# Altium footprint library PCB2.pcblib: 19 footprints (part 1 of 2)
Each footprint in its own frame and in the unit in brackets; x right, y up, seen from the top. Pads: shape width x height; smd on the part's side, far side on the other; paste and mask are expansions set on the pad; w line width, h text height; cw(c..) or ccw(c..) is an arc to the next point about the centre after c.
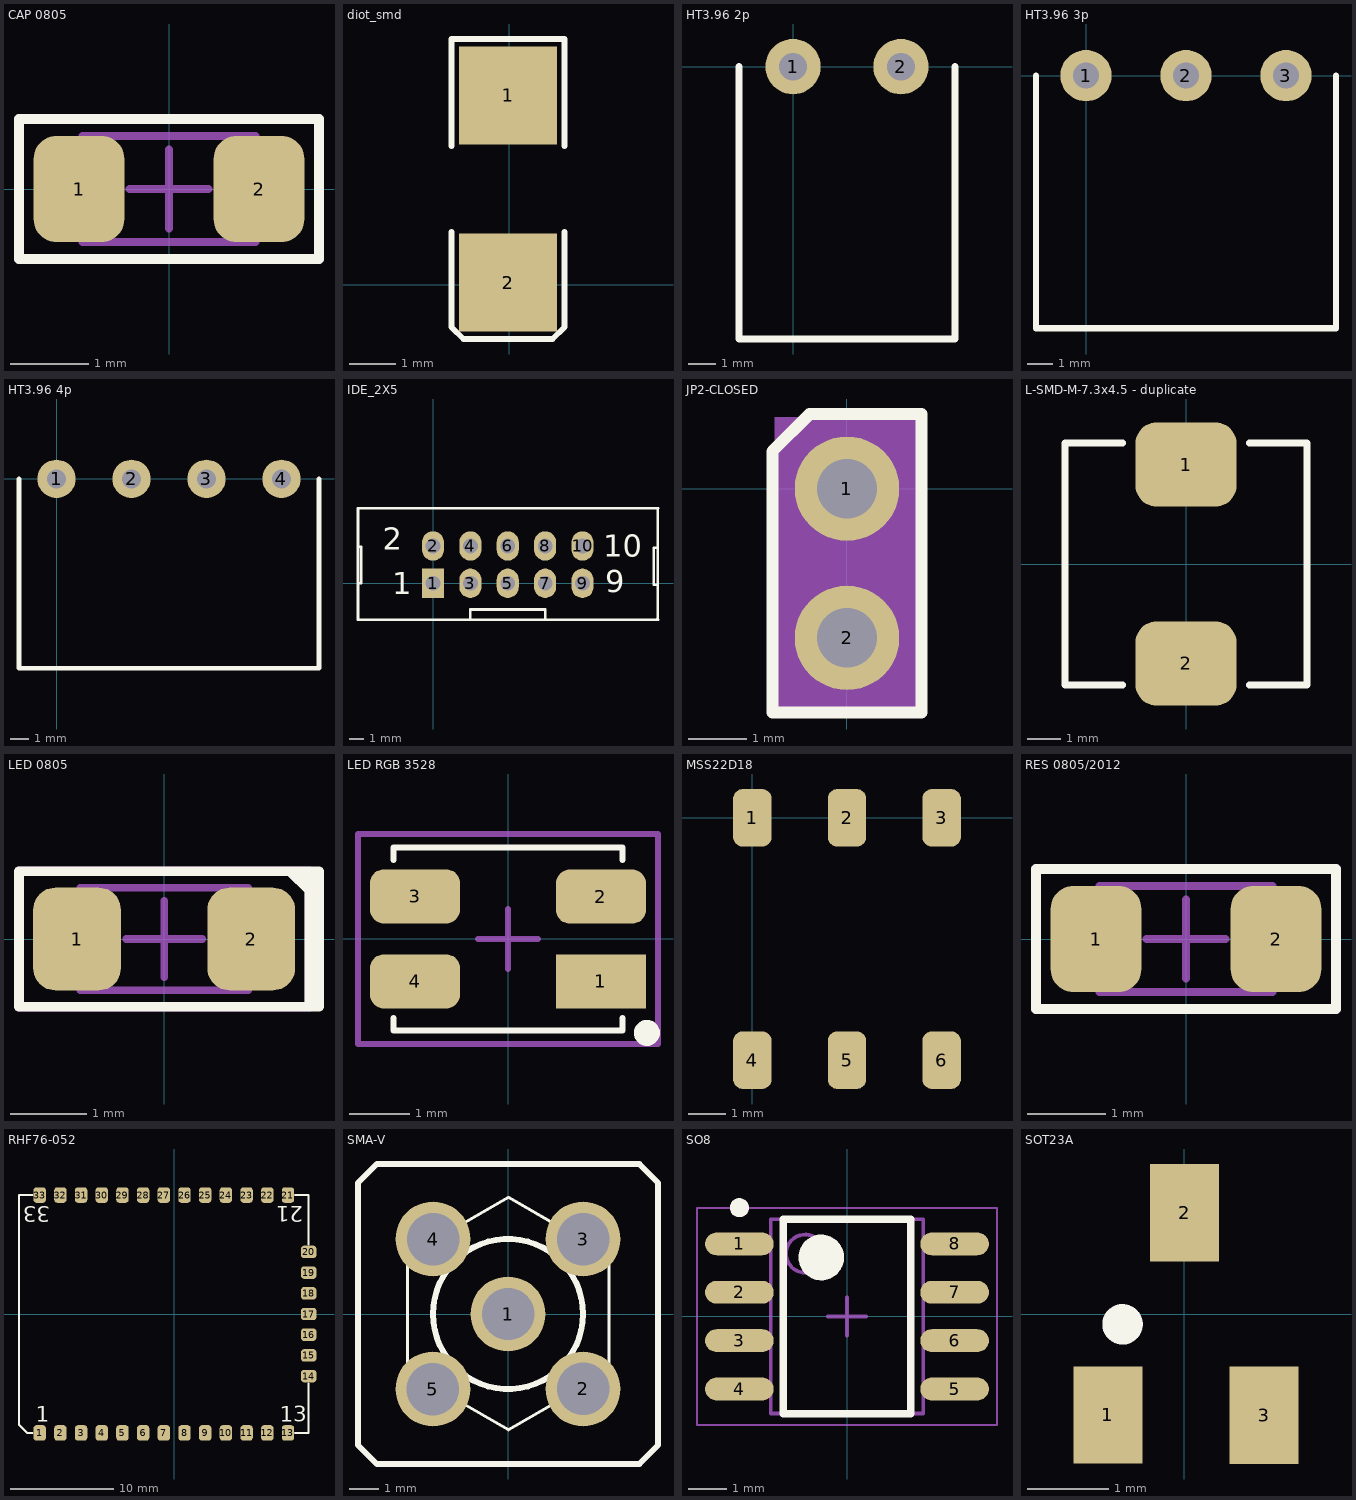
[diagram p0: the footprints below, top view; thin cyan lines are the x and y axes]

## CAP 0805 [mm]
pads (2):
  rrect50% 1.15x1.35 smd: 1(-1.143,0) 2(1.143,0)
Top Overlay:
  lines w0.127: -1.905,-0.889 -1.905,0.889 1.905,0.889 1.905,-0.889 -1.905,-0.889
Mechanical 13:
  lines w0.1: -1.1,-0.675 -1.1,0.675 1.1,0.675 1.1,-0.675 -1.1,-0.675
Mechanical 15:
  lines w0.1: -0.5,0 0.5,0 ; 0,-0.5 0,0.5
  lines w0.127: -1.905,-0.889 -1.905,0.889 1.905,0.889 1.905,-0.889 -1.905,-0.889
3D body "SW3dPS-smt_resistor_packages.STEP": height 0.64, standoff 0.02, extent -1.01,-0.635 1.01,0.635

## diot_smd [mm]
pads (2):
  rect 2.1x2.1 smd: 1(-0.026,4.053) 2(-0.026,0.053)
Top Overlay:
  lines w0.127: -1.232,1.132 -1.232,-0.9 -0.978,-1.154 0.927,-1.154 1.181,-0.9 1.181,1.132 ; -1.232,2.973 -1.232,5.259 1.181,5.259 1.181,2.973
3D body "User Library-SMAJ.STEP": height 2.04, standoff 0.05, extent -1.295,-0.381 1.245,4.549

## HT3.96 2p [mil]
pads (2):
  round 80 hole 40: 1(0,0) 2(155.91,0)
Top Overlay:
  lines w10: -77.95,0 -77.95,-393.7 233.86,-393.7 233.86,0

## HT3.96 3p [mil]
pads (3):
  round 80 hole 40: 1(0,0) 2(155.91,0) 3(311.81,0)
Top Overlay:
  lines w10: -77.95,0 -77.95,-393.7 389.76,-393.7 389.76,0

## HT3.96 4p [mil]
pads (4):
  round 80 hole 40: 1(0,0) 2(155.91,0) 3(311.81,0) 4(467.72,0)
Top Overlay:
  lines w10: -77.95,0 -77.95,-393.7 545.67,-393.7 545.67,0

## IDE_2X5 [mm]
pads (10):
  rect 1.5x2 hole 1: 1(0,0)
  oval 1.5x2 hole 1: 2(0,2.54) 3(2.54,0) 4(2.54,2.54) 5(5.08,0) 6(5.08,2.54) 7(7.62,0) 8(7.62,2.54) 9(10.16,0) 10(10.16,2.54)
Top Overlay:
  lines w0.178: -5.1,-0.025 -5.075,0 -4.875,0 -4.875,2.475 -5.1,2.475 ; 2.525,-2.438 2.525,-1.778 7.625,-1.778 7.625,-2.464 ; 15.203,-2.45 15.265,-2.388 ; 15.265,-0.102 15.011,-0.102 15.011,2.423 15.265,2.423 ; 15.291,-2.475 -5.1,-2.475 -5.1,5.1 ; -5.1,5.1 15.291,5.1 -5.1,5.1 ; 15.265,-2.388 15.265,5.105 15.265,-2.388
  text "1" at -2.775,-0.75 h1.52
  text "2" at -3.429,2.286 h1.52
  text "9" at 11.709,-0.61 h1.52
  text "10" at 11.582,1.803 h1.52
3D body "User Library-IDC Socket Male 10pin Straight THT Goldplated 2_54mm.STEP": height 9.17, standoff -3.23, extent -5.07,-2.98 15.23,5.87

## JP2-CLOSED [mil]
pads (2):
  round 70 hole 40: 1(0,0) 2(0,-100)
Top Overlay:
  lines w8: -50,-150 50,-150 50,50 -25,50 -50,25 -50,-150
Mechanical 2:
  rectangle: -48,-151 49.5,48
Mechanical 3:
  rectangle: -48.5,-148 48.5,48
3D body: height 300, standoff -120, extent -15,-115.25 15,-85.25
3D body: height 300, standoff -120, extent -15,-15.25 15,14.75
3D body: height 100, standoff 0, extent -50,-150.43 50,50
3D body: height 220, standoff 100, extent -48,-152 48,48
3D body: height 250, standoff 220, extent -41,-144 40,39.5
3D body: height 280, standoff 250, extent -48,-152 48,48

## L-SMD-M-7.3x4.5 - duplicate [mm]
pads (2):
  rrect50% 3.048x2.54 smd: 1(0,3) 2(0,-3)
Top Overlay:
  lines w0.2: -1.905,-3.65 -3.65,-3.65 -3.65,3.65 -1.905,3.65 ; 1.905,-3.65 3.65,-3.65 3.65,3.65 1.905,3.65
3D body "IndPDA_7345.stp": height 4.05, standoff 0.05, extent -3.65,-3.65 3.65,3.65

## LED 0805 [mm]
pads (2):
  rrect50% 1.15x1.35 smd: 1(-1.143,0) 2(1.143,0)
Top Overlay:
  lines w0.051: 1.875,0.632 1.905,0.632 1.905,0.889
  lines w0.127: 1.651,0.889 1.905,0.635 ; 1.778,0.889 1.905,0.762 ; 1.981,-0.889 1.981,0.889 ; 1.905,-0.889 1.905,0.889 ; 1.905,-0.889 -1.905,-0.889 -1.905,0.889 1.905,0.889 ; 1.905,-0.889 2.032,-0.889 2.032,0.889 1.905,0.889
Mechanical 13:
  lines w0.1: -1.1,-0.675 -1.1,0.675 1.1,0.675 1.1,-0.675 -1.1,-0.675
Mechanical 15:
  lines w0.1: -0.5,0 0.5,0 ; 0,-0.5 0,0.5
  lines w0.127: -1.905,-0.889 -1.905,0.889 1.905,0.889 1.905,-0.889 -1.905,-0.889
3D body "LED 0805 Base YELLOW.STEP": height 0.4, standoff 0, extent -1,-0.625 1,0.625
3D body "LED 0805 Lens YELLOW.STEP": height 0.9, standoff 0.3, extent -0.65,-0.625 0.65,0.625

## LED RGB 3528 [mm]
pads (4):
  rect 1.5x0.9 smd: 1(1.55,-0.707)
  rrect50% 1.5x0.9 smd: 2(1.55,0.707) 3(-1.55,0.71) 4(-1.55,-0.707)
Top Overlay:
  circle w0.254: c2.314,-1.565 r0.09
  lines w0.1: -1.905,-1.321 -1.905,-1.524 1.905,-1.524 1.905,-1.321 ; -1.905,1.321 -1.905,1.524 1.905,1.524 1.905,1.321 ; 1.778,-1.524 1.803,-1.524
Mechanical 15:
  lines w0.1: -0.5,0 0.5,0 ; 0,-0.5 0,0.5 ; -2.5,-1.75 -2.5,1.75 2.5,1.75 2.5,-1.75 -2.5,-1.75
3D body "WL-SBTW_1411_RV.stp": height 1.87, standoff -0.03, extent -1.75,-1.4 1.75,1.4

## MSS22D18 [mil]
pads (6):
  rrect50% 40x60 smd: 1(0,0) 2(98.43,0) 3(196.85,0) 4(0,-251.97) 5(98.43,-251.97) 6(196.85,-251.97)
3D body "Selector Switch - MSS22D18.stp": height 231.5, standoff 2.5, extent -81.5,-262 279.5,10

## RES 0805/2012 [mm]
pads (2):
  rrect50% 1.15x1.35 smd: 1(-1.143,0) 2(1.143,0)
Top Overlay:
  lines w0.127: -1.905,-0.889 -1.905,0.889 1.905,0.889 1.905,-0.889 -1.905,-0.889
Mechanical 13:
  lines w0.1: -1.1,-0.675 -1.1,0.675 1.1,0.675 1.1,-0.675 -1.1,-0.675
Mechanical 15:
  lines w0.1: -0.5,0 0.5,0 ; 0,-0.5 0,0.5
  lines w0.127: -1.905,-0.889 -1.905,0.889 1.905,0.889 1.905,-0.889 -1.905,-0.889
3D body "0805 resistor.STEP": height 0.6, standoff 0, extent -0.95,-0.625 1.05,0.625

## RHF76-052 [mm]
pads (33):
  rrect50% 1.2x1.5 smd: 1(-13,-11.5) 2(-11,-11.5) 3(-9,-11.5) 4(-7,-11.5) 5(-5,-11.5) 6(-3,-11.5) 7(-1,-11.5) 8(1,-11.5) 9(3,-11.5) 10(5,-11.5) 11(7,-11.5) 12(9,-11.5) 13(11,-11.5) 21(11,11.5) 22(9,11.5) 23(7,11.5) 24(5,11.5) 25(3,11.5) 26(1,11.5) 27(-1,11.5) 28(-3,11.5) 29(-5,11.5) 30(-7,11.5) 31(-9,11.5) 32(-11,11.5) 33(-13,11.5)
  rrect50% 1.5x1.2 smd: 14(13,-6) 15(13,-4) 16(13,-2) 17(13,0) 18(13,2) 19(13,4) 20(13,6)
Top Layer:
  lines w0.254: 13,-6 13.05,-6 13.056,-5.994
Top Overlay:
  lines w0.2: -13.7,-11.5 -14.2,-11.5 -15,-10.7 -15,11.5 -13.7,11.5 ; 11.7,-11.5 13,-11.5 13,-6.7 ; 11.7,11.5 13,11.5 13,6.7
  text "33" at -12,10.4 h1.5
  text "21" at 12.5,10.4 h1.5
  text "13" at 10.2,-10.4 h1.5
  text "1" at -13.4,-10.4 h1.5
3D body: height 2.54, standoff 0, extent -14.986,-11.43 12.954,11.43

## SMA-V [mil]
pads (5):
  round 100 hole 70: 1(0,0) 2(100,-100) 3(100,100) 4(-100,100) 5(-100,-100)
Top Overlay:
  circle w8: c0,0 r100
  circle w8: c0,0 r25
  lines w4: -133.69,-76.91 -133.69,78.09 0.55,155.59 134.78,78.09 134.78,-76.91 0.55,-154.41 -133.69,-76.91
  lines w8: -200,-175 -175,-200 175,-200 200,-175 200,175 175,200 -175,200 -200,175 -200,150 -200,-175
3D body "SMA-J-P-X-ST-TH1.step": height 385.54, standoff -145.95, extent -138.3,-136.09 137.3,139.5

## SO8 [mm]
pads (8):
  oval 1.8x0.6 smd: 1(-2.825,1.905) 2(-2.825,0.635) 3(-2.825,-0.635) 4(-2.825,-1.905) 5(2.825,-1.905) 6(2.825,-0.635) 7(2.825,0.635) 8(2.825,1.905)
Top Overlay:
  circle w0.25: c-2.825,2.855 r0.125
  circle w0.6: c-0.675,1.55 r0.3
  lines w0.2: -1.675,-2.55 -1.675,2.55 1.675,2.55 1.675,-2.55 -1.675,-2.55
Mechanical 13:
  circle w0.1: c-1.1,1.65 r0.5
  lines w0.1: -2,-2.55 -2,2.55 2,2.55 2,-2.55 -2,-2.55
Mechanical 15:
  lines w0.05: -3.937,-2.85 -3.937,2.85 3.937,2.85 3.937,-2.85 -3.937,-2.85
  lines w0.1: -0.5,0 0.5,0 ; 0,-0.5 0,0.5
3D body "CircuitWorks-SO-8 (PIC12FXXX).step": height 1.6, standoff 0, extent -2.995,-2.45 2.995,2.45

## SOT23A [mm]
pads (3):
  rect 0.85x1.2 smd: 1(-0.94,-1.245) 2(0.005,1.25) 3(0.985,-1.25)
Top Overlay:
  circle w0.25: c-0.76,-0.127 r0.125
3D body "SW3DPS-SOT-23-DEFAULT.STEP": height 1.06, standoff -0.04, extent -1.5,-1.301 1.5,1.199